# Altium schematic symbol library SCH - MCU - STM32 - ST MICROELECTRONICS STM32H725REVX VFQFPN68.SchLib: 1 symbol
Pins are listed as number, name and electrical type; pins without a type are passive.

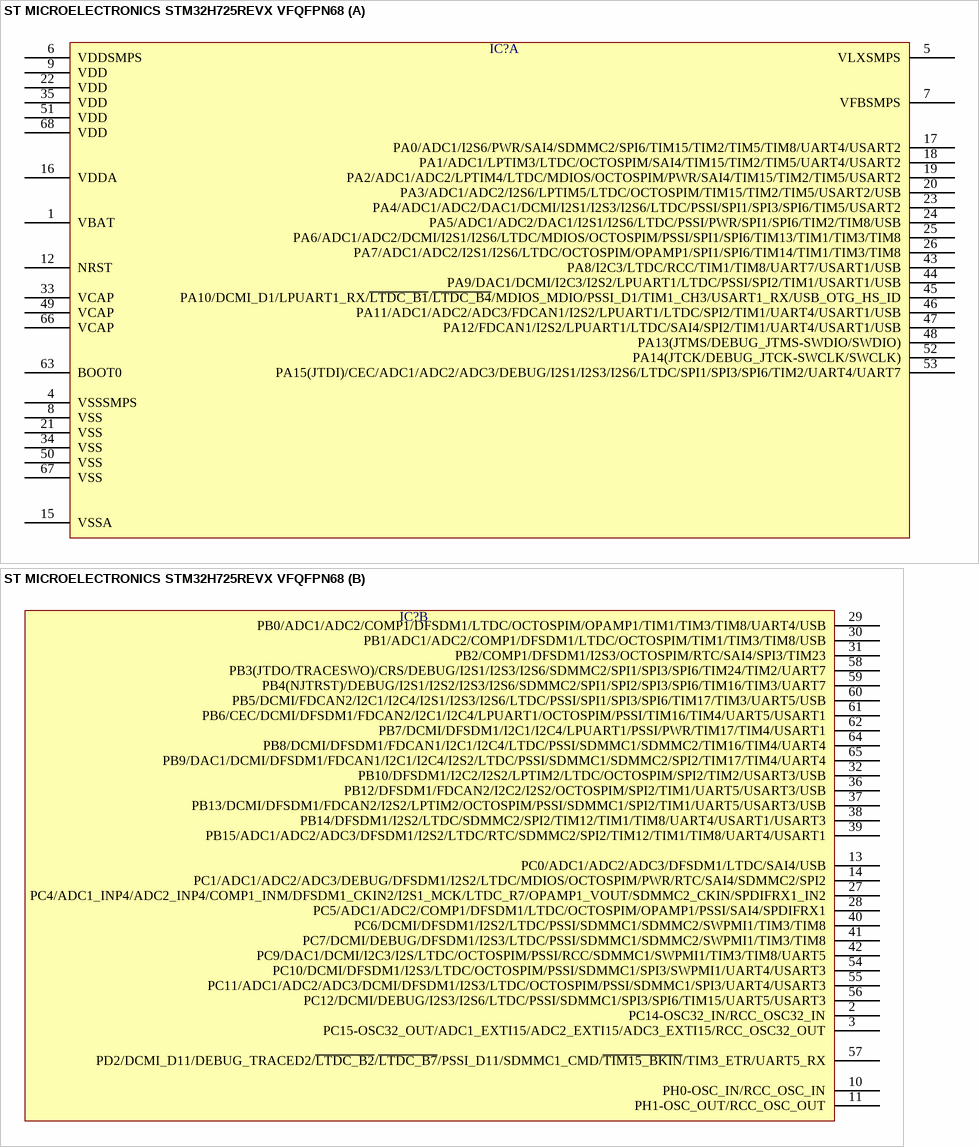
[diagram p0: symbol ST MICROELECTRONICS STM32H725REVX VFQFPN68]

## ST MICROELECTRONICS STM32H725REVX VFQFPN68
designator IC?  (value not drawn)
part A pins: 1 VBAT, 4 VSSSMPS, 5 VLXSMPS, 6 VDDSMPS, 7 VFBSMPS, 8 VSS, 9 VDD, 12 NRST, 15 VSSA, 16 VDDA, 17 PA0/ADC1/I2S6/PWR/SAI4/SDMMC2/SPI6/TIM15/TIM2/TIM5/TIM8/UART4/USART2, 18 PA1/ADC1/LPTIM3/LTDC/OCTOSPIM/SAI4/TIM15/TIM2/TIM5/UART4/USART2, 19 PA2/ADC1/ADC2/LPTIM4/LTDC/MDIOS/OCTOSPIM/PWR/SAI4/TIM15/TIM2/TIM5/USART2, 20 PA3/ADC1/ADC2/I2S6/LPTIM5/LTDC/OCTOSPIM/TIM15/TIM2/TIM5/USART2/USB, 21 VSS, 22 VDD, 23 PA4/ADC1/ADC2/DAC1/DCMI/I2S1/I2S3/I2S6/LTDC/PSSI/SPI1/SPI3/SPI6/TIM5/USART2, 24 PA5/ADC1/ADC2/DAC1/I2S1/I2S6/LTDC/PSSI/PWR/SPI1/SPI6/TIM2/TIM8/USB, 25 PA6/ADC1/ADC2/DCMI/I2S1/I2S6/LTDC/MDIOS/OCTOSPIM/PSSI/SPI1/SPI6/TIM13/TIM1/TIM3/TIM8, 26 PA7/ADC1/ADC2/I2S1/I2S6/LTDC/OCTOSPIM/OPAMP1/SPI1/SPI6/TIM14/TIM1/TIM3/TIM8, 33 VCAP, 34 VSS, 35 VDD, 43 PA8/I2C3/LTDC/RCC/TIM1/TIM8/UART7/USART1/USB, 44 PA9/DAC1/DCMI/I2C3/I2S2/LPUART1/LTDC/PSSI/SPI2/TIM1/USART1/USB, 45 PA10/DCMI_D1/LPUART1_RX/~{LTDC_B1}/~{LTDC_B4}/MDIOS_MDIO/PSSI_D1/TIM1_CH3/USART1_RX/USB_OTG_HS_ID, 46 PA11/ADC1/ADC2/ADC3/FDCAN1/I2S2/LPUART1/LTDC/SPI2/TIM1/UART4/USART1/USB, 47 PA12/FDCAN1/I2S2/LPUART1/LTDC/SAI4/SPI2/TIM1/UART4/USART1/USB, 48 PA13(JTMS/DEBUG_JTMS-SWDIO/SWDIO), 49 VCAP, 50 VSS, 51 VDD, 52 PA14(JTCK/DEBUG_JTCK-SWCLK/SWCLK), 53 PA15(JTDI)/CEC/ADC1/ADC2/ADC3/DEBUG/I2S1/I2S3/I2S6/LTDC/SPI1/SPI3/SPI6/TIM2/UART4/UART7, 63 BOOT0, 66 VCAP, 67 VSS, 68 VDD
part B pins: 2 PC14-OSC32_IN/RCC_OSC32_IN, 3 PC15-OSC32_OUT/ADC1_EXTI15/ADC2_EXTI15/ADC3_EXTI15/RCC_OSC32_OUT, 10 PH0-OSC_IN/RCC_OSC_IN, 11 PH1-OSC_OUT/RCC_OSC_OUT, 13 PC0/ADC1/ADC2/ADC3/DFSDM1/LTDC/SAI4/USB, 14 PC1/ADC1/ADC2/ADC3/DEBUG/DFSDM1/I2S2/LTDC/MDIOS/OCTOSPIM/PWR/RTC/SAI4/SDMMC2/SPI2, 27 PC4/ADC1_INP4/ADC2_INP4/COMP1_INM/DFSDM1_CKIN2/I2S1_MCK/LTDC_R7/OPAMP1_VOUT/SDMMC2_CKIN/SPDIFRX1_IN2, 28 PC5/ADC1/ADC2/COMP1/DFSDM1/LTDC/OCTOSPIM/OPAMP1/PSSI/SAI4/SPDIFRX1, 29 PB0/ADC1/ADC2/COMP1/DFSDM1/LTDC/OCTOSPIM/OPAMP1/TIM1/TIM3/TIM8/UART4/USB, 30 PB1/ADC1/ADC2/COMP1/DFSDM1/LTDC/OCTOSPIM/TIM1/TIM3/TIM8/USB, 31 PB2/COMP1/DFSDM1/I2S3/OCTOSPIM/RTC/SAI4/SPI3/TIM23, 32 PB10/DFSDM1/I2C2/I2S2/LPTIM2/LTDC/OCTOSPIM/SPI2/TIM2/USART3/USB, 36 PB12/DFSDM1/FDCAN2/I2C2/I2S2/OCTOSPIM/SPI2/TIM1/UART5/USART3/USB, 37 PB13/DCMI/DFSDM1/FDCAN2/I2S2/LPTIM2/OCTOSPIM/PSSI/SDMMC1/SPI2/TIM1/UART5/USART3/USB, 38 PB14/DFSDM1/I2S2/LTDC/SDMMC2/SPI2/TIM12/TIM1/TIM8/UART4/USART1/USART3, 39 PB15/ADC1/ADC2/ADC3/DFSDM1/I2S2/LTDC/RTC/SDMMC2/SPI2/TIM12/TIM1/TIM8/UART4/USART1, 40 PC6/DCMI/DFSDM1/I2S2/LTDC/PSSI/SDMMC1/SDMMC2/SWPMI1/TIM3/TIM8, 41 PC7/DCMI/DEBUG/DFSDM1/I2S3/LTDC/PSSI/SDMMC1/SDMMC2/SWPMI1/TIM3/TIM8, 42 PC9/DAC1/DCMI/I2C3/I2S/LTDC/OCTOSPIM/PSSI/RCC/SDMMC1/SWPMI1/TIM3/TIM8/UART5, 54 PC10/DCMI/DFSDM1/I2S3/LTDC/OCTOSPIM/PSSI/SDMMC1/SPI3/SWPMI1/UART4/USART3, 55 PC11/ADC1/ADC2/ADC3/DCMI/DFSDM1/I2S3/LTDC/OCTOSPIM/PSSI/SDMMC1/SPI3/UART4/USART3, 56 PC12/DCMI/DEBUG/I2S3/I2S6/LTDC/PSSI/SDMMC1/SPI3/SPI6/TIM15/UART5/USART3, 57 PD2/DCMI_D11/DEBUG_TRACED2/~{LTDC_B2}/~{LTDC_B7}/PSSI_D11/SDMMC1_CMD/~{TIM15_BKIN}/TIM3_ETR/UART5_RX, 58 PB3(JTDO/TRACESWO)/CRS/DEBUG/I2S1/I2S3/I2S6/SDMMC2/SPI1/SPI3/SPI6/TIM24/TIM2/UART7, 59 PB4(NJTRST)/DEBUG/I2S1/I2S2/I2S3/I2S6/SDMMC2/SPI1/SPI2/SPI3/SPI6/TIM16/TIM3/UART7, 60 PB5/DCMI/FDCAN2/I2C1/I2C4/I2S1/I2S3/I2S6/LTDC/PSSI/SPI1/SPI3/SPI6/TIM17/TIM3/UART5/USB, 61 PB6/CEC/DCMI/DFSDM1/FDCAN2/I2C1/I2C4/LPUART1/OCTOSPIM/PSSI/TIM16/TIM4/UART5/USART1, 62 PB7/DCMI/DFSDM1/I2C1/I2C4/LPUART1/PSSI/PWR/TIM17/TIM4/USART1, 64 PB8/DCMI/DFSDM1/FDCAN1/I2C1/I2C4/LTDC/PSSI/SDMMC1/SDMMC2/TIM16/TIM4/UART4, 65 PB9/DAC1/DCMI/DFSDM1/FDCAN1/I2C1/I2C4/I2S2/LTDC/PSSI/SDMMC1/SDMMC2/SPI2/TIM17/TIM4/UART4